# EAGLE library part 74LVC2G00 (library yapo)
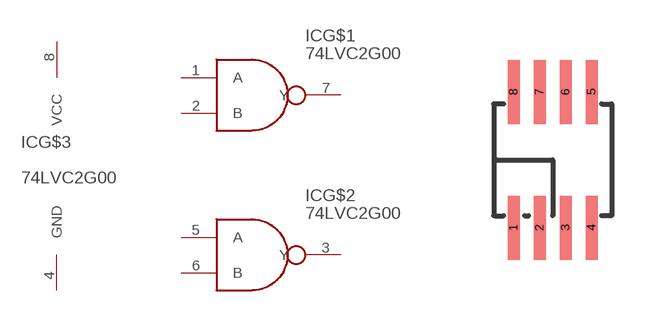
[diagram p90: symbol with the pads of SM8; footprint SM8]

Designator prefix IC; gates G$1=NAND G$2=NAND G$3=VCC-GND

## 74LVC2G00  [SM8]
1  G$1:A
2  G$1:B
3  G$2:Y
4  G$3:GND
5  G$2:A
6  G$2:B
7  G$1:Y
8  G$3:VCC

## Footprint SM8 (pad centres in mm)
smd 0.3 x 1.6: 1 -0.975,-1.7; 2 -0.325,-1.7; 3 0.325,-1.7; 4 0.975,-1.7; 5 0.975,1.7; 6 0.325,1.7; 7 -0.325,1.7; 8 -0.975,1.7